# Altium schematic symbol library L6924D013TR.SchLib: 1 symbol
Pins are listed as number, name and electrical type; pins without a type are passive.

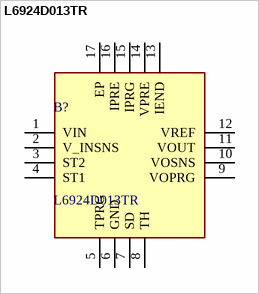
[diagram p0: symbol L6924D013TR]

## L6924D013TR
designator B?
Battery charger system with integrated power switch for Li-Ion/Li-Polymer; Manufacturer_Name: STMicroelectronics; Geometry.Height: 1mm; Manufacturer_Part_Number: L6924D013TR; Mouser Part Number: 511-L6924D013TR; Mouser Price/Stock: https://www.mouser.co.uk/ProductDetail/STMicroelectronics/L6924D013TR?qs=sZ9INdjBHvd2z7dh9ZwpeQ%3D%3D; Arrow Part Number: L6924D013TR; Arrow Price/Stock: https://www.arrow.com/en/products/l6924d013tr/stmicroelectronics?region=nac; Datasheet Link: https://www.st.com/resource/en/datasheet/l6924d.pdf
footprint QFN50P300X300X100-17N-D
pins: 1 VIN, 2 V_INSNS, 3 ST2, 4 ST1, 5 TPRG, 6 GND, 7 SD, 8 TH, 9 VOPRG, 10 VOSNS, 11 VOUT, 12 VREF, 13 IEND, 14 VPRE, 15 IPRG, 16 IPRE, 17 EP